# Altium footprint library LTST-C19X.PcbLib: 1 footprints
Each footprint in its own frame and in the unit in brackets; x right, y up, seen from the top. Pads: shape width x height; smd on the part's side, far side on the other; paste and mask are expansions set on the pad; w line width, h text height; cw(c..) or ccw(c..) is an arc to the next point about the centre after c.
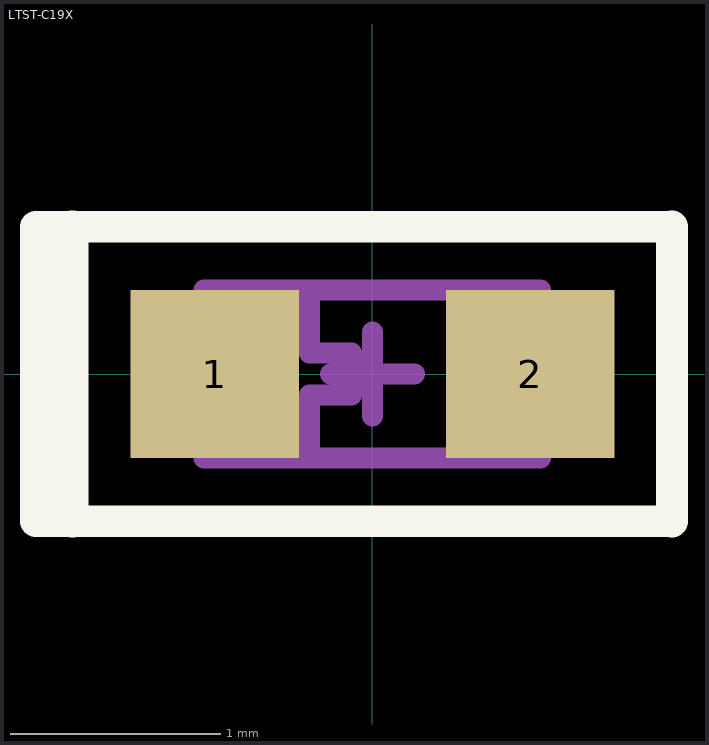
[diagram p0: the footprint, top view; thin cyan lines are the x and y axes]

## LTST-C19X [mm]
height 0.65
pads (2):
  rect 0.8x0.8 smd mask+0.051: 1(-0.75,0) 2(0.75,0)
Top Overlay:
  rectangle: -1.6,-0.7 -1.4,0.7
  lines w0.152: -1.4,-0.7 -1.6,-0.7 -1.6,0.7 -1.425,0.7 ; -1.425,0.7 -1.425,-0.7 1.425,-0.7 1.425,0.7 -1.425,0.7
Top Designator:
  text ".Designator" at -7.705,-0.508 h1.52
3D Body:
  lines w0.1: -0.3,-0.4 -0.3,-0.1 -0.1,-0.1 -0.1,0.1 -0.3,0.1 -0.3,0.3 -0.3,0.4 ; -0.8,-0.4 0.8,-0.4 0.8,0.4 -0.8,0.4 -0.8,-0.4
Center Cross:
  lines w0.1: -0.2,0 0.2,0 0,0 ; 0,-0.2 0,0 ; 0,0.2 0,0
3D body "LTST-C191KRKT.STEP": height 0.8, standoff 0, extent -0.8,-0.4 0.8,0.4